# EAGLE library part FE07-1 (library 4534)
Female Header 0.040 drill
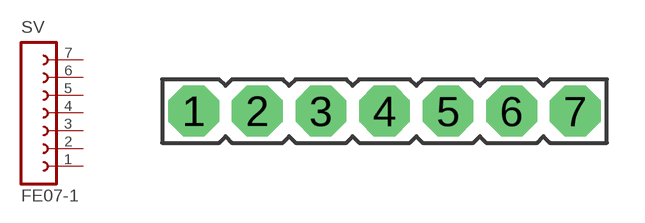
[diagram p1: symbol with the pads of FE07; footprint FE07]

Designator prefix SV

## FE07-1  [FE07]
1  1  pas
2  2  pas
3  3  pas
4  4  pas
5  5  pas
6  6  pas
7  7  pas

## Footprint FE07 (pad centres in mm)
FEMALE HEADER
drill 1.016 pad 2.032 octagon: 1 -7.62,0; 2 -5.08,0; 3 -2.54,0; 4 0,0; 5 2.54,0; 6 5.08,0; 7 7.62,0